# EAGLE library part GB-EXTENTIONS_PIC-ICSP (library Board1)
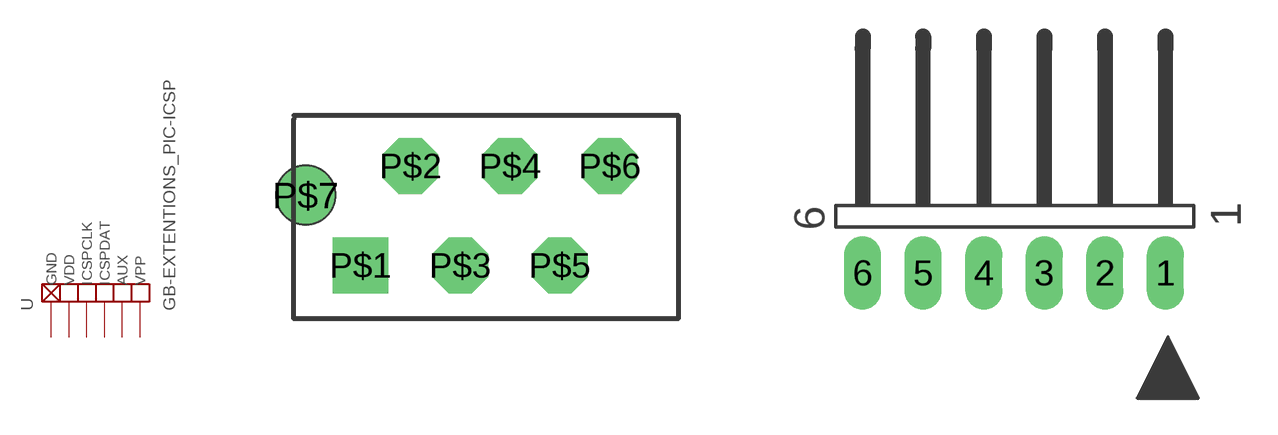
[diagram p0: symbol with the pads of GB-EXTENTIONS_MM6; footprints GB-EXTENTIONS_MM6, GB-EXTENTIONS_PICKIT2]

Designator prefix -

## GB-EXTENTIONS_PIC-ICSPDIDEL  [GB-EXTENTIONS_MM6]
P$1  GND
P$2  VDD
P$3  ICSPCLK
P$4  ICSPDAT
P$5  AUX
P$6  VPP

## GB-EXTENTIONS_PIC-ICSPMICROCHIP  [GB-EXTENTIONS_PICKIT2]
1  VPP
2  VDD
3  GND
4  ICSPDAT
5  ICSPCLK
6  AUX

## GB-EXTENTIONS_PIC-ICSPMICROCHIP45  [GB-EXTENTIONS_PICKIT2-45]
Pads as for GB-EXTENTIONS_PICKIT2

## Footprint GB-EXTENTIONS_MM6 (pad centres in mm)
Connecteur Micro-MaTch 6 Femelle
drill 0.813 pad 1.422 square: P$1 -3.175,-1.27
drill 0.813 pad 1.422 octagon: P$2 -1.905,1.27; P$3 -0.635,-1.27; P$4 0.635,1.27; P$5 1.905,-1.27; P$6 3.175,1.27
drill 1.016 round: P$7 -4.575,0.53
hole 1.5 at -4.575,0.53

## Footprint GB-EXTENTIONS_PICKIT2 (pad centres in mm)
AMP MT CONNECTOR
drill 1.016 long: 1 6.25,-6.25; 2 3.75,-6.25; 3 1.25,-6.25; 4 -1.25,-6.25; 5 -3.75,-6.25; 6 -6.25,-6.25

## Footprint GB-EXTENTIONS_PICKIT2-45 (pad centres in mm)
AMP MT CONNECTOR
drill 1.016 round: 1 0,-8.839; 2 -1.768,-7.071; 3 -3.535,-5.303; 4 -5.303,-3.535; 5 -7.071,-1.768; 6 -8.839,0